# Altium footprint library Headers.PcbLib: 91 footprints (part 6 of 6)
Each footprint in its own frame and in the unit in brackets; x right, y up, seen from the top. Pads: shape width x height; smd on the part's side, far side on the other; paste and mask are expansions set on the pad; w line width, h text height; cw(c..) or ccw(c..) is an arc to the next point about the centre after c.
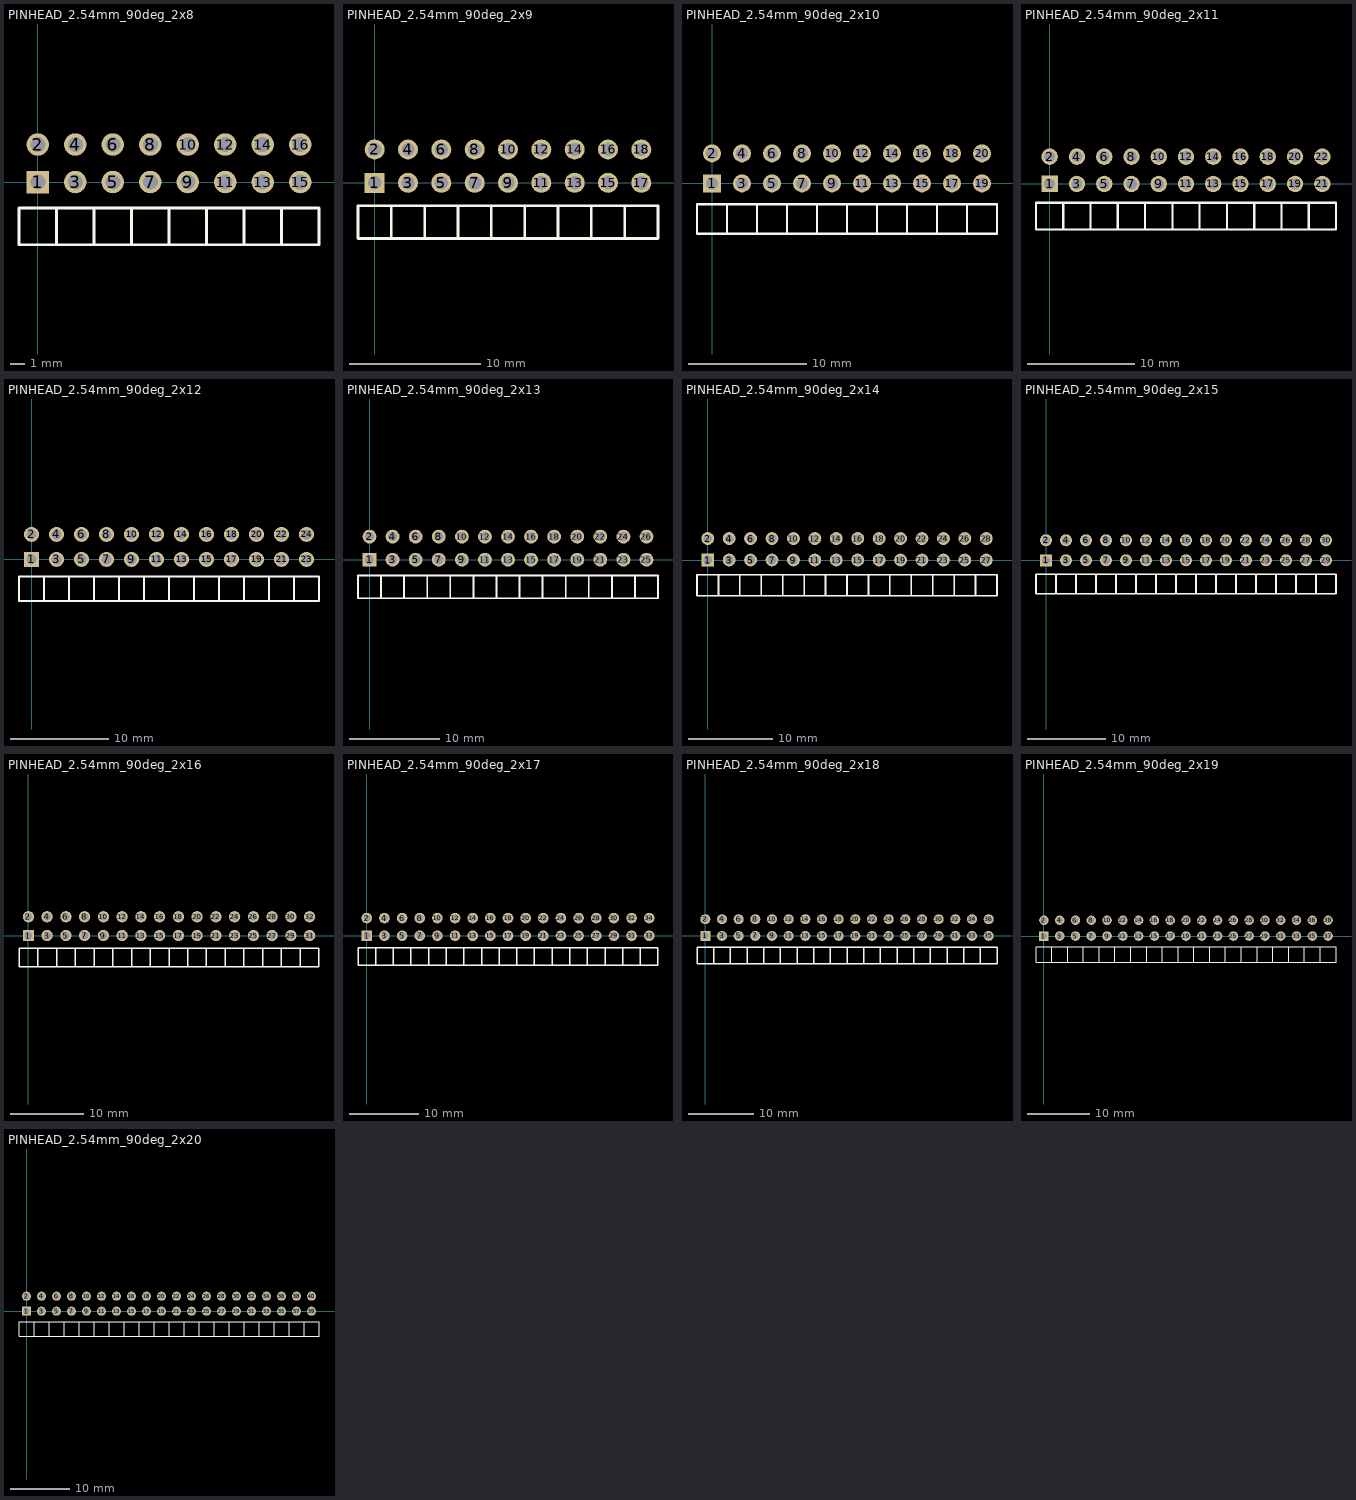
[diagram p5: the footprints below, top view; thin cyan lines are the x and y axes]

## PINHEAD_2.54mm_90deg_2x8 [mil]
pads (16):
  rect 60x60 hole 40: 1(0,0)
  round 60 hole 40: 2(0,100) 3(100,0) 4(100,100) 5(200,0) 6(200,100) 7(300,0) 8(300,100) 9(400,0) 10(400,100) 11(500,0) 12(500,100) 13(600,0) 14(600,100) 15(700,0) 16(700,100)
Top Overlay:
  lines w7.87: 50,-167.32 50,-68.9 ; 50,-167.32 150,-167.32 ; 50,-167.32 -50,-167.32 -50,-68.9 50,-68.9 ; 50,-68.9 150,-68.9 ; 150,-167.32 250,-167.32 ; 150,-167.32 150,-68.9 ; 150,-167.32 150,-68.9 ; 150,-68.9 250,-68.9 ; 250,-167.32 250,-68.9 ; 250,-167.32 250,-68.9 ; 250,-167.32 350,-167.32 ; 250,-68.9 350,-68.9 ; 350,-167.32 350,-68.9 ; 350,-167.32 450,-167.32 ; 350,-68.9 450,-68.9 ; 450,-167.32 550,-167.32 ; 450,-167.32 450,-68.9 ; 450,-167.32 450,-68.9 ; 450,-68.9 550,-68.9 ; 550,-167.32 550,-68.9 ; 550,-167.32 650,-167.32 ; 550,-167.32 550,-68.9 ; 550,-68.9 650,-68.9 ; 650,-167.32 750,-167.32 750,-68.9 650,-68.9 ; 650,-167.32 650,-68.9
3D body "901220123.stp": height 242.13, standoff -114.17, extent -49.99,-433.16 250.01,112.09
3D body "901220123.stp": height 242.13, standoff -114.17, extent 250.01,-433.16 550.01,112.09
3D body "901220122.stp": height 242.13, standoff -114.17, extent 550.01,-433.16 750.01,112.09

## PINHEAD_2.54mm_90deg_2x9 [mil]
pads (18):
  rect 60x60 hole 40: 1(0,0)
  round 60 hole 40: 2(0,100) 3(100,0) 4(100,100) 5(200,0) 6(200,100) 7(300,0) 8(300,100) 9(400,0) 10(400,100) 11(500,0) 12(500,100) 13(600,0) 14(600,100) 15(700,0) 16(700,100) 17(800,0) 18(800,100)
Top Overlay:
  lines w7.87: 50,-167.32 50,-68.9 ; 50,-167.32 150,-167.32 ; 50,-167.32 -50,-167.32 -50,-68.9 50,-68.9 ; 50,-68.9 150,-68.9 ; 150,-167.32 250,-167.32 ; 150,-167.32 150,-68.9 ; 150,-167.32 150,-68.9 ; 150,-68.9 250,-68.9 ; 250,-167.32 250,-68.9 ; 250,-167.32 250,-68.9 ; 250,-167.32 350,-167.32 ; 250,-68.9 350,-68.9 ; 350,-167.32 350,-68.9 ; 350,-167.32 450,-167.32 ; 350,-68.9 450,-68.9 ; 450,-167.32 550,-167.32 ; 450,-167.32 450,-68.9 ; 450,-167.32 450,-68.9 ; 450,-68.9 550,-68.9 ; 550,-167.32 550,-68.9 ; 550,-167.32 550,-68.9 ; 550,-167.32 650,-167.32 ; 550,-68.9 650,-68.9 ; 650,-167.32 650,-68.9 ; 650,-167.32 750,-167.32 ; 650,-68.9 750,-68.9 ; 750,-167.32 850,-167.32 850,-68.9 750,-68.9 ; 750,-167.32 750,-68.9 ; 750,-167.32 750,-68.9
3D body "901220123.stp": height 242.13, standoff -114.17, extent -49.99,-433.16 250.01,112.09
3D body "901220123.stp": height 242.13, standoff -114.17, extent 250.01,-433.16 550.01,112.09
3D body "901220123.stp": height 242.13, standoff -114.17, extent 550.01,-433.16 850.01,112.09

## PINHEAD_2.54mm_90deg_2x10 [mil]
pads (20):
  rect 60x60 hole 40: 1(0,0)
  round 60 hole 40: 2(0,100) 3(100,0) 4(100,100) 5(200,0) 6(200,100) 7(300,0) 8(300,100) 9(400,0) 10(400,100) 11(500,0) 12(500,100) 13(600,0) 14(600,100) 15(700,0) 16(700,100) 17(800,0) 18(800,100) 19(900,0) 20(900,100)
Top Overlay:
  lines w7.87: 50,-167.32 50,-68.9 ; 50,-167.32 150,-167.32 ; 50,-167.32 -50,-167.32 -50,-68.9 50,-68.9 ; 50,-68.9 150,-68.9 ; 150,-167.32 250,-167.32 ; 150,-167.32 150,-68.9 ; 150,-167.32 150,-68.9 ; 150,-68.9 250,-68.9 ; 250,-167.32 250,-68.9 ; 250,-167.32 250,-68.9 ; 250,-167.32 350,-167.32 ; 250,-68.9 350,-68.9 ; 350,-167.32 350,-68.9 ; 350,-167.32 450,-167.32 ; 350,-68.9 450,-68.9 ; 450,-167.32 550,-167.32 ; 450,-167.32 450,-68.9 ; 450,-167.32 450,-68.9 ; 450,-68.9 550,-68.9 ; 550,-167.32 550,-68.9 ; 550,-167.32 650,-167.32 ; 550,-167.32 550,-68.9 ; 550,-68.9 650,-68.9 ; 650,-167.32 750,-167.32 ; 650,-167.32 650,-68.9 ; 650,-68.9 750,-68.9 ; 750,-167.32 750,-68.9 ; 750,-167.32 850,-167.32 ; 750,-167.32 750,-68.9 ; 750,-68.9 850,-68.9 ; 850,-167.32 950,-167.32 950,-68.9 850,-68.9 ; 850,-167.32 850,-68.9
3D body "901220123.stp": height 242.13, standoff -114.17, extent -49.99,-433.16 250.01,112.09
3D body "901220123.stp": height 242.13, standoff -114.17, extent 250.01,-433.16 550.01,112.09
3D body "901220122.stp": height 242.13, standoff -114.17, extent 550.01,-433.16 750.01,112.09
3D body "901220122.stp": height 242.13, standoff -114.17, extent 750.01,-433.16 950.01,112.09

## PINHEAD_2.54mm_90deg_2x11 [mil]
pads (22):
  rect 60x60 hole 40: 1(0,0)
  round 60 hole 40: 2(0,100) 3(100,0) 4(100,100) 5(200,0) 6(200,100) 7(300,0) 8(300,100) 9(400,0) 10(400,100) 11(500,0) 12(500,100) 13(600,0) 14(600,100) 15(700,0) 16(700,100) 17(800,0) 18(800,100) 19(900,0) 20(900,100) 21(1000,0) 22(1000,100)
Top Overlay:
  lines w7.87: 50,-167.32 50,-68.9 ; 50,-167.32 150,-167.32 ; 50,-167.32 -50,-167.32 -50,-68.9 50,-68.9 ; 50,-68.9 150,-68.9 ; 150,-167.32 250,-167.32 ; 150,-167.32 150,-68.9 ; 150,-167.32 150,-68.9 ; 150,-68.9 250,-68.9 ; 250,-167.32 250,-68.9 ; 250,-167.32 250,-68.9 ; 250,-167.32 350,-167.32 ; 250,-68.9 350,-68.9 ; 350,-167.32 350,-68.9 ; 350,-167.32 450,-167.32 ; 350,-68.9 450,-68.9 ; 450,-167.32 550,-167.32 ; 450,-167.32 450,-68.9 ; 450,-167.32 450,-68.9 ; 450,-68.9 550,-68.9 ; 550,-167.32 550,-68.9 ; 550,-167.32 550,-68.9 ; 550,-167.32 650,-167.32 ; 550,-68.9 650,-68.9 ; 650,-167.32 650,-68.9 ; 650,-167.32 750,-167.32 ; 650,-68.9 750,-68.9 ; 750,-167.32 850,-167.32 ; 750,-167.32 750,-68.9 ; 750,-167.32 750,-68.9 ; 750,-68.9 850,-68.9 ; 850,-167.32 850,-68.9 ; 850,-167.32 950,-167.32 ; 850,-167.32 850,-68.9 ; 850,-68.9 950,-68.9 ; 950,-167.32 1050,-167.32 1050,-68.9 950,-68.9 ; 950,-167.32 950,-68.9
3D body "901220123.stp": height 242.13, standoff -114.17, extent -49.99,-433.16 250.01,112.09
3D body "901220123.stp": height 242.13, standoff -114.17, extent 250.01,-433.16 550.01,112.09
3D body "901220123.stp": height 242.13, standoff -114.17, extent 550.01,-433.16 850.01,112.09
3D body "901220122.stp": height 242.13, standoff -114.17, extent 850.01,-433.16 1050.01,112.09

## PINHEAD_2.54mm_90deg_2x12 [mil]
pads (24):
  rect 60x60 hole 40: 1(0,0)
  round 60 hole 40: 2(0,100) 3(100,0) 4(100,100) 5(200,0) 6(200,100) 7(300,0) 8(300,100) 9(400,0) 10(400,100) 11(500,0) 12(500,100) 13(600,0) 14(600,100) 15(700,0) 16(700,100) 17(800,0) 18(800,100) 19(900,0) 20(900,100) 21(1000,0) 22(1000,100) 23(1100,0) 24(1100,100)
Top Overlay:
  lines w7.87: 50,-167.32 50,-68.9 ; 50,-167.32 150,-167.32 ; 50,-167.32 -50,-167.32 -50,-68.9 50,-68.9 ; 50,-68.9 150,-68.9 ; 150,-167.32 250,-167.32 ; 150,-167.32 150,-68.9 ; 150,-167.32 150,-68.9 ; 150,-68.9 250,-68.9 ; 250,-167.32 250,-68.9 ; 250,-167.32 250,-68.9 ; 250,-167.32 350,-167.32 ; 250,-68.9 350,-68.9 ; 350,-167.32 350,-68.9 ; 350,-167.32 450,-167.32 ; 350,-68.9 450,-68.9 ; 450,-167.32 550,-167.32 ; 450,-167.32 450,-68.9 ; 450,-167.32 450,-68.9 ; 450,-68.9 550,-68.9 ; 550,-167.32 550,-68.9 ; 550,-167.32 550,-68.9 ; 550,-167.32 650,-167.32 ; 550,-68.9 650,-68.9 ; 650,-167.32 650,-68.9 ; 650,-167.32 750,-167.32 ; 650,-68.9 750,-68.9 ; 750,-167.32 850,-167.32 ; 750,-167.32 750,-68.9 ; 750,-167.32 750,-68.9 ; 750,-68.9 850,-68.9 ; 850,-167.32 850,-68.9 ; 850,-167.32 850,-68.9 ; 850,-167.32 950,-167.32 ; 850,-68.9 950,-68.9 ; 950,-167.32 950,-68.9 ; 950,-167.32 1050,-167.32 ; 950,-68.9 1050,-68.9 ; 1050,-167.32 1150,-167.32 1150,-68.9 1050,-68.9 ; 1050,-167.32 1050,-68.9 ; 1050,-167.32 1050,-68.9
3D body "901220123.stp": height 242.13, standoff -114.17, extent -49.99,-433.16 250.01,112.09
3D body "901220123.stp": height 242.13, standoff -114.17, extent 250.01,-433.16 550.01,112.09
3D body "901220123.stp": height 242.13, standoff -114.17, extent 550.01,-433.16 850.01,112.09
3D body "901220123.stp": height 242.13, standoff -114.17, extent 850.01,-433.16 1150.01,112.09

## PINHEAD_2.54mm_90deg_2x13 [mil]
pads (26):
  rect 60x60 hole 40: 1(0,0)
  round 60 hole 40: 2(0,100) 3(100,0) 4(100,100) 5(200,0) 6(200,100) 7(300,0) 8(300,100) 9(400,0) 10(400,100) 11(500,0) 12(500,100) 13(600,0) 14(600,100) 15(700,0) 16(700,100) 17(800,0) 18(800,100) 19(900,0) 20(900,100) 21(1000,0) 22(1000,100) 23(1100,0) 24(1100,100) 25(1200,0) 26(1200,100)
Top Overlay:
  lines w7.87: 50,-167.32 -50,-167.32 -50,-68.9 50,-68.9 ; 50,-167.32 150,-167.32 ; 50,-167.32 50,-68.9 ; 50,-68.9 150,-68.9 ; 150,-167.32 150,-68.9 ; 150,-167.32 150,-68.9 ; 150,-167.32 250,-167.32 ; 150,-68.9 250,-68.9 ; 250,-167.32 350,-167.32 ; 250,-167.32 250,-68.9 ; 250,-167.32 250,-68.9 ; 250,-68.9 350,-68.9 ; 350,-167.32 450,-167.32 ; 350,-167.32 350,-68.9 ; 350,-68.9 450,-68.9 ; 450,-167.32 450,-68.9 ; 450,-167.32 450,-68.9 ; 450,-167.32 550,-167.32 ; 450,-68.9 550,-68.9 ; 550,-167.32 650,-167.32 ; 550,-167.32 550,-68.9 ; 550,-167.32 550,-68.9 ; 550,-68.9 650,-68.9 ; 650,-167.32 750,-167.32 ; 650,-167.32 650,-68.9 ; 650,-68.9 750,-68.9 ; 750,-167.32 750,-68.9 ; 750,-167.32 750,-68.9 ; 750,-167.32 850,-167.32 ; 750,-68.9 850,-68.9 ; 850,-167.32 850,-68.9 ; 850,-167.32 950,-167.32 ; 850,-167.32 850,-68.9 ; 850,-68.9 950,-68.9 ; 950,-167.32 950,-68.9 ; 950,-167.32 1050,-167.32 ; 950,-68.9 1050,-68.9 ; 1050,-167.32 1050,-68.9 ; 1050,-167.32 1150,-167.32 ; 1050,-167.32 1050,-68.9 ; 1050,-68.9 1150,-68.9 ; 1150,-167.32 1150,-68.9 ; 1150,-167.32 1250,-167.32 1250,-68.9 1150,-68.9
3D body "901220122.stp": height 242.13, standoff -114.17, extent 1050.01,-433.16 1250.01,112.09
3D body "901220122.stp": height 242.13, standoff -114.17, extent 850.01,-433.16 1050.01,112.09
3D body "901220123.stp": height 242.13, standoff -114.17, extent 550.01,-433.16 850.01,112.09
3D body "901220123.stp": height 242.13, standoff -114.17, extent 250.01,-433.16 550.01,112.09
3D body "901220123.stp": height 242.13, standoff -114.17, extent -49.99,-433.16 250.01,112.09

## PINHEAD_2.54mm_90deg_2x14 [mil]
pads (28):
  rect 60x60 hole 40: 1(0,0)
  round 60 hole 40: 2(0,100) 3(100,0) 4(100,100) 5(200,0) 6(200,100) 7(300,0) 8(300,100) 9(400,0) 10(400,100) 11(500,0) 12(500,100) 13(600,0) 14(600,100) 15(700,0) 16(700,100) 17(800,0) 18(800,100) 19(900,0) 20(900,100) 21(1000,0) 22(1000,100) 23(1100,0) 24(1100,100) 25(1200,0) 26(1200,100) 27(1300,0) 28(1300,100)
Top Overlay:
  lines w7.87: 50,-167.32 50,-68.9 ; 50,-167.32 150,-167.32 ; 50,-167.32 -50,-167.32 -50,-68.9 50,-68.9 ; 50,-68.9 150,-68.9 ; 150,-167.32 250,-167.32 ; 150,-167.32 150,-68.9 ; 150,-167.32 150,-68.9 ; 150,-68.9 250,-68.9 ; 250,-167.32 250,-68.9 ; 250,-167.32 250,-68.9 ; 250,-167.32 350,-167.32 ; 250,-68.9 350,-68.9 ; 350,-167.32 350,-68.9 ; 350,-167.32 450,-167.32 ; 350,-68.9 450,-68.9 ; 450,-167.32 550,-167.32 ; 450,-167.32 450,-68.9 ; 450,-167.32 450,-68.9 ; 450,-68.9 550,-68.9 ; 550,-167.32 550,-68.9 ; 550,-167.32 550,-68.9 ; 550,-167.32 650,-167.32 ; 550,-68.9 650,-68.9 ; 650,-167.32 650,-68.9 ; 650,-167.32 750,-167.32 ; 650,-68.9 750,-68.9 ; 750,-167.32 850,-167.32 ; 750,-167.32 750,-68.9 ; 750,-167.32 750,-68.9 ; 750,-68.9 850,-68.9 ; 850,-167.32 850,-68.9 ; 850,-167.32 850,-68.9 ; 850,-167.32 950,-167.32 ; 850,-68.9 950,-68.9 ; 950,-167.32 950,-68.9 ; 950,-167.32 1050,-167.32 ; 950,-68.9 1050,-68.9 ; 1050,-167.32 1150,-167.32 ; 1050,-167.32 1050,-68.9 ; 1050,-167.32 1050,-68.9 ; 1050,-68.9 1150,-68.9 ; 1150,-167.32 1150,-68.9 ; 1150,-167.32 1250,-167.32 ; 1150,-167.32 1150,-68.9 ; 1150,-68.9 1250,-68.9 ; 1250,-167.32 1350,-167.32 1350,-68.9 1250,-68.9 ; 1250,-167.32 1250,-68.9
3D body "901220123.stp": height 242.13, standoff -114.17, extent -49.99,-433.16 250.01,112.09
3D body "901220123.stp": height 242.13, standoff -114.17, extent 250.01,-433.16 550.01,112.09
3D body "901220123.stp": height 242.13, standoff -114.17, extent 550.01,-433.16 850.01,112.09
3D body "901220123.stp": height 242.13, standoff -114.17, extent 850.01,-433.16 1150.01,112.09
3D body "901220122.stp": height 242.13, standoff -114.17, extent 1150.01,-433.16 1350.01,112.09

## PINHEAD_2.54mm_90deg_2x15 [mil]
pads (30):
  rect 60x60 hole 40: 1(0,0)
  round 60 hole 40: 2(0,100) 3(100,0) 4(100,100) 5(200,0) 6(200,100) 7(300,0) 8(300,100) 9(400,0) 10(400,100) 11(500,0) 12(500,100) 13(600,0) 14(600,100) 15(700,0) 16(700,100) 17(800,0) 18(800,100) 19(900,0) 20(900,100) 21(1000,0) 22(1000,100) 23(1100,0) 24(1100,100) 25(1200,0) 26(1200,100) 27(1300,0) 28(1300,100) 29(1400,0) 30(1400,100)
Top Overlay:
  lines w7.87: 50,-167.32 50,-68.9 ; 50,-167.32 150,-167.32 ; 50,-167.32 -50,-167.32 -50,-68.9 50,-68.9 ; 50,-68.9 150,-68.9 ; 150,-167.32 250,-167.32 ; 150,-167.32 150,-68.9 ; 150,-167.32 150,-68.9 ; 150,-68.9 250,-68.9 ; 250,-167.32 250,-68.9 ; 250,-167.32 250,-68.9 ; 250,-167.32 350,-167.32 ; 250,-68.9 350,-68.9 ; 350,-167.32 350,-68.9 ; 350,-167.32 450,-167.32 ; 350,-68.9 450,-68.9 ; 450,-167.32 550,-167.32 ; 450,-167.32 450,-68.9 ; 450,-167.32 450,-68.9 ; 450,-68.9 550,-68.9 ; 550,-167.32 550,-68.9 ; 550,-167.32 550,-68.9 ; 550,-167.32 650,-167.32 ; 550,-68.9 650,-68.9 ; 650,-167.32 650,-68.9 ; 650,-167.32 750,-167.32 ; 650,-68.9 750,-68.9 ; 750,-167.32 850,-167.32 ; 750,-167.32 750,-68.9 ; 750,-167.32 750,-68.9 ; 750,-68.9 850,-68.9 ; 850,-167.32 850,-68.9 ; 850,-167.32 850,-68.9 ; 850,-167.32 950,-167.32 ; 850,-68.9 950,-68.9 ; 950,-167.32 950,-68.9 ; 950,-167.32 1050,-167.32 ; 950,-68.9 1050,-68.9 ; 1050,-167.32 1150,-167.32 ; 1050,-167.32 1050,-68.9 ; 1050,-167.32 1050,-68.9 ; 1050,-68.9 1150,-68.9 ; 1150,-167.32 1150,-68.9 ; 1150,-167.32 1150,-68.9 ; 1150,-167.32 1250,-167.32 ; 1150,-68.9 1250,-68.9 ; 1250,-167.32 1250,-68.9 ; 1250,-167.32 1350,-167.32 ; 1250,-68.9 1350,-68.9 ; 1350,-167.32 1450,-167.32 1450,-68.9 1350,-68.9 ; 1350,-167.32 1350,-68.9 ; 1350,-167.32 1350,-68.9
3D body "901220123.stp": height 242.13, standoff -114.17, extent -49.99,-433.16 250.01,112.09
3D body "901220123.stp": height 242.13, standoff -114.17, extent 250.01,-433.16 550.01,112.09
3D body "901220123.stp": height 242.13, standoff -114.17, extent 550.01,-433.16 850.01,112.09
3D body "901220123.stp": height 242.13, standoff -114.17, extent 850.01,-433.16 1150.01,112.09
3D body "901220123.stp": height 242.13, standoff -114.17, extent 1150.01,-433.16 1450.01,112.09

## PINHEAD_2.54mm_90deg_2x16 [mil]
pads (32):
  rect 60x60 hole 40: 1(0,0)
  round 60 hole 40: 2(0,100) 3(100,0) 4(100,100) 5(200,0) 6(200,100) 7(300,0) 8(300,100) 9(400,0) 10(400,100) 11(500,0) 12(500,100) 13(600,0) 14(600,100) 15(700,0) 16(700,100) 17(800,0) 18(800,100) 19(900,0) 20(900,100) 21(1000,0) 22(1000,100) 23(1100,0) 24(1100,100) 25(1200,0) 26(1200,100) 27(1300,0) 28(1300,100) 29(1400,0) 30(1400,100) 31(1500,0) 32(1500,100)
Top Overlay:
  lines w7.87: 50,-167.32 50,-68.9 ; 50,-167.32 150,-167.32 ; 50,-167.32 -50,-167.32 -50,-68.9 50,-68.9 ; 50,-68.9 150,-68.9 ; 150,-167.32 250,-167.32 ; 150,-167.32 150,-68.9 ; 150,-167.32 150,-68.9 ; 150,-68.9 250,-68.9 ; 250,-167.32 250,-68.9 ; 250,-167.32 250,-68.9 ; 250,-167.32 350,-167.32 ; 250,-68.9 350,-68.9 ; 350,-167.32 350,-68.9 ; 350,-167.32 450,-167.32 ; 350,-68.9 450,-68.9 ; 450,-167.32 550,-167.32 ; 450,-167.32 450,-68.9 ; 450,-167.32 450,-68.9 ; 450,-68.9 550,-68.9 ; 550,-167.32 550,-68.9 ; 550,-167.32 550,-68.9 ; 550,-167.32 650,-167.32 ; 550,-68.9 650,-68.9 ; 650,-167.32 650,-68.9 ; 650,-167.32 750,-167.32 ; 650,-68.9 750,-68.9 ; 750,-167.32 850,-167.32 ; 750,-167.32 750,-68.9 ; 750,-167.32 750,-68.9 ; 750,-68.9 850,-68.9 ; 850,-167.32 850,-68.9 ; 850,-167.32 850,-68.9 ; 850,-167.32 950,-167.32 ; 850,-68.9 950,-68.9 ; 950,-167.32 950,-68.9 ; 950,-167.32 1050,-167.32 ; 950,-68.9 1050,-68.9 ; 1050,-167.32 1150,-167.32 ; 1050,-167.32 1050,-68.9 ; 1050,-167.32 1050,-68.9 ; 1050,-68.9 1150,-68.9 ; 1150,-167.32 1150,-68.9 ; 1150,-167.32 1250,-167.32 ; 1150,-167.32 1150,-68.9 ; 1150,-68.9 1250,-68.9 ; 1250,-167.32 1350,-167.32 ; 1250,-167.32 1250,-68.9 ; 1250,-68.9 1350,-68.9 ; 1350,-167.32 1350,-68.9 ; 1350,-167.32 1450,-167.32 ; 1350,-167.32 1350,-68.9 ; 1350,-68.9 1450,-68.9 ; 1450,-167.32 1550,-167.32 1550,-68.9 1450,-68.9 ; 1450,-167.32 1450,-68.9
3D body "901220123.stp": height 242.13, standoff -114.17, extent -49.99,-433.16 250.01,112.09
3D body "901220123.stp": height 242.13, standoff -114.17, extent 250.01,-433.16 550.01,112.09
3D body "901220123.stp": height 242.13, standoff -114.17, extent 550.01,-433.16 850.01,112.09
3D body "901220123.stp": height 242.13, standoff -114.17, extent 850.01,-433.16 1150.01,112.09
3D body "901220122.stp": height 242.13, standoff -114.17, extent 1150.01,-433.16 1350.01,112.09
3D body "901220122.stp": height 242.13, standoff -114.17, extent 1350.01,-433.16 1550.01,112.09

## PINHEAD_2.54mm_90deg_2x17 [mil]
pads (34):
  rect 60x60 hole 40: 1(0,0)
  round 60 hole 40: 2(0,100) 3(100,0) 4(100,100) 5(200,0) 6(200,100) 7(300,0) 8(300,100) 9(400,0) 10(400,100) 11(500,0) 12(500,100) 13(600,0) 14(600,100) 15(700,0) 16(700,100) 17(800,0) 18(800,100) 19(900,0) 20(900,100) 21(1000,0) 22(1000,100) 23(1100,0) 24(1100,100) 25(1200,0) 26(1200,100) 27(1300,0) 28(1300,100) 29(1400,0) 30(1400,100) 31(1500,0) 32(1500,100) 33(1600,0) 34(1600,100)
Top Overlay:
  lines w7.87: 50,-167.32 50,-68.9 ; 50,-167.32 150,-167.32 ; 50,-167.32 -50,-167.32 -50,-68.9 50,-68.9 ; 50,-68.9 150,-68.9 ; 150,-167.32 250,-167.32 ; 150,-167.32 150,-68.9 ; 150,-167.32 150,-68.9 ; 150,-68.9 250,-68.9 ; 250,-167.32 250,-68.9 ; 250,-167.32 250,-68.9 ; 250,-167.32 350,-167.32 ; 250,-68.9 350,-68.9 ; 350,-167.32 350,-68.9 ; 350,-167.32 450,-167.32 ; 350,-68.9 450,-68.9 ; 450,-167.32 550,-167.32 ; 450,-167.32 450,-68.9 ; 450,-167.32 450,-68.9 ; 450,-68.9 550,-68.9 ; 550,-167.32 550,-68.9 ; 550,-167.32 550,-68.9 ; 550,-167.32 650,-167.32 ; 550,-68.9 650,-68.9 ; 650,-167.32 650,-68.9 ; 650,-167.32 750,-167.32 ; 650,-68.9 750,-68.9 ; 750,-167.32 850,-167.32 ; 750,-167.32 750,-68.9 ; 750,-167.32 750,-68.9 ; 750,-68.9 850,-68.9 ; 850,-167.32 850,-68.9 ; 850,-167.32 850,-68.9 ; 850,-167.32 950,-167.32 ; 850,-68.9 950,-68.9 ; 950,-167.32 950,-68.9 ; 950,-167.32 1050,-167.32 ; 950,-68.9 1050,-68.9 ; 1050,-167.32 1150,-167.32 ; 1050,-167.32 1050,-68.9 ; 1050,-167.32 1050,-68.9 ; 1050,-68.9 1150,-68.9 ; 1150,-167.32 1150,-68.9 ; 1150,-167.32 1150,-68.9 ; 1150,-167.32 1250,-167.32 ; 1150,-68.9 1250,-68.9 ; 1250,-167.32 1250,-68.9 ; 1250,-167.32 1350,-167.32 ; 1250,-68.9 1350,-68.9 ; 1350,-167.32 1450,-167.32 ; 1350,-167.32 1350,-68.9 ; 1350,-167.32 1350,-68.9 ; 1350,-68.9 1450,-68.9 ; 1450,-167.32 1450,-68.9 ; 1450,-167.32 1550,-167.32 ; 1450,-167.32 1450,-68.9 ; 1450,-68.9 1550,-68.9 ; 1550,-167.32 1650,-167.32 1650,-68.9 1550,-68.9 ; 1550,-167.32 1550,-68.9
3D body "901220123.stp": height 242.13, standoff -114.17, extent -49.99,-433.16 250.01,112.09
3D body "901220123.stp": height 242.13, standoff -114.17, extent 250.01,-433.16 550.01,112.09
3D body "901220123.stp": height 242.13, standoff -114.17, extent 550.01,-433.16 850.01,112.09
3D body "901220123.stp": height 242.13, standoff -114.17, extent 850.01,-433.16 1150.01,112.09
3D body "901220123.stp": height 242.13, standoff -114.17, extent 1150.01,-433.16 1450.01,112.09
3D body "901220122.stp": height 242.13, standoff -114.17, extent 1450.01,-433.16 1650.01,112.09

## PINHEAD_2.54mm_90deg_2x18 [mil]
pads (36):
  rect 60x60 hole 40: 1(0,0)
  round 60 hole 40: 2(0,100) 3(100,0) 4(100,100) 5(200,0) 6(200,100) 7(300,0) 8(300,100) 9(400,0) 10(400,100) 11(500,0) 12(500,100) 13(600,0) 14(600,100) 15(700,0) 16(700,100) 17(800,0) 18(800,100) 19(900,0) 20(900,100) 21(1000,0) 22(1000,100) 23(1100,0) 24(1100,100) 25(1200,0) 26(1200,100) 27(1300,0) 28(1300,100) 29(1400,0) 30(1400,100) 31(1500,0) 32(1500,100) 33(1600,0) 34(1600,100) 35(1700,0) 36(1700,100)
Top Overlay:
  lines w7.87: 50,-167.32 50,-68.9 ; 50,-167.32 150,-167.32 ; 50,-167.32 -50,-167.32 -50,-68.9 50,-68.9 ; 50,-68.9 150,-68.9 ; 150,-167.32 250,-167.32 ; 150,-167.32 150,-68.9 ; 150,-167.32 150,-68.9 ; 150,-68.9 250,-68.9 ; 250,-167.32 250,-68.9 ; 250,-167.32 250,-68.9 ; 250,-167.32 350,-167.32 ; 250,-68.9 350,-68.9 ; 350,-167.32 350,-68.9 ; 350,-167.32 450,-167.32 ; 350,-68.9 450,-68.9 ; 450,-167.32 550,-167.32 ; 450,-167.32 450,-68.9 ; 450,-167.32 450,-68.9 ; 450,-68.9 550,-68.9 ; 550,-167.32 550,-68.9 ; 550,-167.32 550,-68.9 ; 550,-167.32 650,-167.32 ; 550,-68.9 650,-68.9 ; 650,-167.32 650,-68.9 ; 650,-167.32 750,-167.32 ; 650,-68.9 750,-68.9 ; 750,-167.32 850,-167.32 ; 750,-167.32 750,-68.9 ; 750,-167.32 750,-68.9 ; 750,-68.9 850,-68.9 ; 850,-167.32 850,-68.9 ; 850,-167.32 850,-68.9 ; 850,-167.32 950,-167.32 ; 850,-68.9 950,-68.9 ; 950,-167.32 950,-68.9 ; 950,-167.32 1050,-167.32 ; 950,-68.9 1050,-68.9 ; 1050,-167.32 1150,-167.32 ; 1050,-167.32 1050,-68.9 ; 1050,-167.32 1050,-68.9 ; 1050,-68.9 1150,-68.9 ; 1150,-167.32 1150,-68.9 ; 1150,-167.32 1150,-68.9 ; 1150,-167.32 1250,-167.32 ; 1150,-68.9 1250,-68.9 ; 1250,-167.32 1250,-68.9 ; 1250,-167.32 1350,-167.32 ; 1250,-68.9 1350,-68.9 ; 1350,-167.32 1450,-167.32 ; 1350,-167.32 1350,-68.9 ; 1350,-167.32 1350,-68.9 ; 1350,-68.9 1450,-68.9 ; 1450,-167.32 1450,-68.9 ; 1450,-167.32 1450,-68.9 ; 1450,-167.32 1550,-167.32 ; 1450,-68.9 1550,-68.9 ; 1550,-167.32 1550,-68.9 ; 1550,-167.32 1650,-167.32 ; 1550,-68.9 1650,-68.9 ; 1650,-167.32 1750,-167.32 1750,-68.9 1650,-68.9 ; 1650,-167.32 1650,-68.9 ; 1650,-167.32 1650,-68.9
3D body "901220123.stp": height 242.13, standoff -114.17, extent -49.99,-433.16 250.01,112.09
3D body "901220123.stp": height 242.13, standoff -114.17, extent 250.01,-433.16 550.01,112.09
3D body "901220123.stp": height 242.13, standoff -114.17, extent 550.01,-433.16 850.01,112.09
3D body "901220123.stp": height 242.13, standoff -114.17, extent 850.01,-433.16 1150.01,112.09
3D body "901220123.stp": height 242.13, standoff -114.17, extent 1150.01,-433.16 1450.01,112.09
3D body "901220123.stp": height 242.13, standoff -114.17, extent 1450.01,-433.16 1750.01,112.09

## PINHEAD_2.54mm_90deg_2x19 [mil]
pads (38):
  rect 60x60 hole 40: 1(0,0)
  round 60 hole 40: 2(0,100) 3(100,0) 4(100,100) 5(200,0) 6(200,100) 7(300,0) 8(300,100) 9(400,0) 10(400,100) 11(500,0) 12(500,100) 13(600,0) 14(600,100) 15(700,0) 16(700,100) 17(800,0) 18(800,100) 19(900,0) 20(900,100) 21(1000,0) 22(1000,100) 23(1100,0) 24(1100,100) 25(1200,0) 26(1200,100) 27(1300,0) 28(1300,100) 29(1400,0) 30(1400,100) 31(1500,0) 32(1500,100) 33(1600,0) 34(1600,100) 35(1700,0) 36(1700,100) 37(1800,0) 38(1800,100)
Top Overlay:
  lines w7.87: 50,-167.32 -50,-167.32 -50,-68.9 50,-68.9 ; 50,-167.32 150,-167.32 ; 50,-167.32 50,-68.9 ; 50,-68.9 150,-68.9 ; 150,-167.32 150,-68.9 ; 150,-167.32 150,-68.9 ; 150,-167.32 250,-167.32 ; 150,-68.9 250,-68.9 ; 250,-167.32 350,-167.32 ; 250,-167.32 250,-68.9 ; 250,-167.32 250,-68.9 ; 250,-68.9 350,-68.9 ; 350,-167.32 450,-167.32 ; 350,-167.32 350,-68.9 ; 350,-68.9 450,-68.9 ; 450,-167.32 450,-68.9 ; 450,-167.32 450,-68.9 ; 450,-167.32 550,-167.32 ; 450,-68.9 550,-68.9 ; 550,-167.32 650,-167.32 ; 550,-167.32 550,-68.9 ; 550,-167.32 550,-68.9 ; 550,-68.9 650,-68.9 ; 650,-167.32 750,-167.32 ; 650,-167.32 650,-68.9 ; 650,-68.9 750,-68.9 ; 750,-167.32 750,-68.9 ; 750,-167.32 750,-68.9 ; 750,-167.32 850,-167.32 ; 750,-68.9 850,-68.9 ; 850,-167.32 950,-167.32 ; 850,-167.32 850,-68.9 ; 850,-167.32 850,-68.9 ; 850,-68.9 950,-68.9 ; 950,-167.32 1050,-167.32 ; 950,-167.32 950,-68.9 ; 950,-68.9 1050,-68.9 ; 1050,-167.32 1050,-68.9 ; 1050,-167.32 1050,-68.9 ; 1050,-167.32 1150,-167.32 ; 1050,-68.9 1150,-68.9 ; 1150,-167.32 1250,-167.32 ; 1150,-167.32 1150,-68.9 ; 1150,-167.32 1150,-68.9 ; 1150,-68.9 1250,-68.9 ; 1250,-167.32 1350,-167.32 ; 1250,-167.32 1250,-68.9 ; 1250,-68.9 1350,-68.9 ; 1350,-167.32 1350,-68.9 ; 1350,-167.32 1350,-68.9 ; 1350,-167.32 1450,-167.32 ; 1350,-68.9 1450,-68.9 ; 1450,-167.32 1450,-68.9 ; 1450,-167.32 1550,-167.32 ; 1450,-167.32 1450,-68.9 ; 1450,-68.9 1550,-68.9 ; 1550,-167.32 1550,-68.9 ; 1550,-167.32 1650,-167.32 ; 1550,-68.9 1650,-68.9 ; 1650,-167.32 1650,-68.9 ; 1650,-167.32 1750,-167.32 ; 1650,-167.32 1650,-68.9 ; 1650,-68.9 1750,-68.9 ; 1750,-167.32 1750,-68.9 ; 1750,-167.32 1850,-167.32 1850,-68.9 1750,-68.9
3D body "901220122.stp": height 242.13, standoff -114.17, extent 1650.01,-433.16 1850.01,112.09
3D body "901220122.stp": height 242.13, standoff -114.17, extent 1450.01,-433.16 1650.01,112.09
3D body "901220123.stp": height 242.13, standoff -114.17, extent 1150.01,-433.16 1450.01,112.09
3D body "901220123.stp": height 242.13, standoff -114.17, extent 850.01,-433.16 1150.01,112.09
3D body "901220123.stp": height 242.13, standoff -114.17, extent 550.01,-433.16 850.01,112.09
3D body "901220123.stp": height 242.13, standoff -114.17, extent 250.01,-433.16 550.01,112.09
3D body "901220123.stp": height 242.13, standoff -114.17, extent -49.99,-433.16 250.01,112.09

## PINHEAD_2.54mm_90deg_2x20 [mil]
pads (40):
  rect 60x60 hole 40: 1(0,0)
  round 60 hole 40: 2(0,100) 3(100,0) 4(100,100) 5(200,0) 6(200,100) 7(300,0) 8(300,100) 9(400,0) 10(400,100) 11(500,0) 12(500,100) 13(600,0) 14(600,100) 15(700,0) 16(700,100) 17(800,0) 18(800,100) 19(900,0) 20(900,100) 21(1000,0) 22(1000,100) 23(1100,0) 24(1100,100) 25(1200,0) 26(1200,100) 27(1300,0) 28(1300,100) 29(1400,0) 30(1400,100) 31(1500,0) 32(1500,100) 33(1600,0) 34(1600,100) 35(1700,0) 36(1700,100) 37(1800,0) 38(1800,100) 39(1900,0) 40(1900,100)
Top Overlay:
  lines w7.87: 50,-167.32 -50,-167.32 -50,-68.9 50,-68.9 ; 50,-167.32 150,-167.32 ; 50,-167.32 50,-68.9 ; 50,-68.9 150,-68.9 ; 150,-167.32 150,-68.9 ; 150,-167.32 150,-68.9 ; 150,-167.32 250,-167.32 ; 150,-68.9 250,-68.9 ; 250,-167.32 350,-167.32 ; 250,-167.32 250,-68.9 ; 250,-167.32 250,-68.9 ; 250,-68.9 350,-68.9 ; 350,-167.32 450,-167.32 ; 350,-167.32 350,-68.9 ; 350,-68.9 450,-68.9 ; 450,-167.32 450,-68.9 ; 450,-167.32 450,-68.9 ; 450,-167.32 550,-167.32 ; 450,-68.9 550,-68.9 ; 550,-167.32 650,-167.32 ; 550,-167.32 550,-68.9 ; 550,-167.32 550,-68.9 ; 550,-68.9 650,-68.9 ; 650,-167.32 750,-167.32 ; 650,-167.32 650,-68.9 ; 650,-68.9 750,-68.9 ; 750,-167.32 750,-68.9 ; 750,-167.32 750,-68.9 ; 750,-167.32 850,-167.32 ; 750,-68.9 850,-68.9 ; 850,-167.32 950,-167.32 ; 850,-167.32 850,-68.9 ; 850,-167.32 850,-68.9 ; 850,-68.9 950,-68.9 ; 950,-167.32 1050,-167.32 ; 950,-167.32 950,-68.9 ; 950,-68.9 1050,-68.9 ; 1050,-167.32 1050,-68.9 ; 1050,-167.32 1050,-68.9 ; 1050,-167.32 1150,-167.32 ; 1050,-68.9 1150,-68.9 ; 1150,-167.32 1250,-167.32 ; 1150,-167.32 1150,-68.9 ; 1150,-167.32 1150,-68.9 ; 1150,-68.9 1250,-68.9 ; 1250,-167.32 1350,-167.32 ; 1250,-167.32 1250,-68.9 ; 1250,-68.9 1350,-68.9 ; 1350,-167.32 1350,-68.9 ; 1350,-167.32 1350,-68.9 ; 1350,-167.32 1450,-167.32 ; 1350,-68.9 1450,-68.9 ; 1450,-167.32 1550,-167.32 ; 1450,-167.32 1450,-68.9 ; 1450,-167.32 1450,-68.9 ; 1450,-68.9 1550,-68.9 ; 1550,-167.32 1650,-167.32 ; 1550,-167.32 1550,-68.9 ; 1550,-68.9 1650,-68.9 ; 1650,-167.32 1650,-68.9 ; 1650,-167.32 1650,-68.9 ; 1650,-167.32 1750,-167.32 ; 1650,-68.9 1750,-68.9 ; 1750,-167.32 1750,-68.9 ; 1750,-167.32 1850,-167.32 ; 1750,-167.32 1750,-68.9 ; 1750,-68.9 1850,-68.9 ; 1850,-167.32 1950,-167.32 1950,-68.9 1850,-68.9 ; 1850,-167.32 1850,-68.9
3D body "901220123.stp": height 242.13, standoff -114.17, extent 1450.01,-433.16 1750.01,112.09
3D body "901220123.stp": height 242.13, standoff -114.17, extent 1150.01,-433.16 1450.01,112.09
3D body "901220123.stp": height 242.13, standoff -114.17, extent 850.01,-433.16 1150.01,112.09
3D body "901220123.stp": height 242.13, standoff -114.17, extent 550.01,-433.16 850.01,112.09
3D body "901220123.stp": height 242.13, standoff -114.17, extent 250.01,-433.16 550.01,112.09
3D body "901220123.stp": height 242.13, standoff -114.17, extent -49.99,-433.16 250.01,112.09
3D body "901220122.stp": height 242.13, standoff -114.17, extent 1750.01,-433.16 1950.01,112.09